# EAGLE library part DIP-BLACK-FEMALE-HEADER(2X4P-2.54) (library Seeed-Connector)
320030087
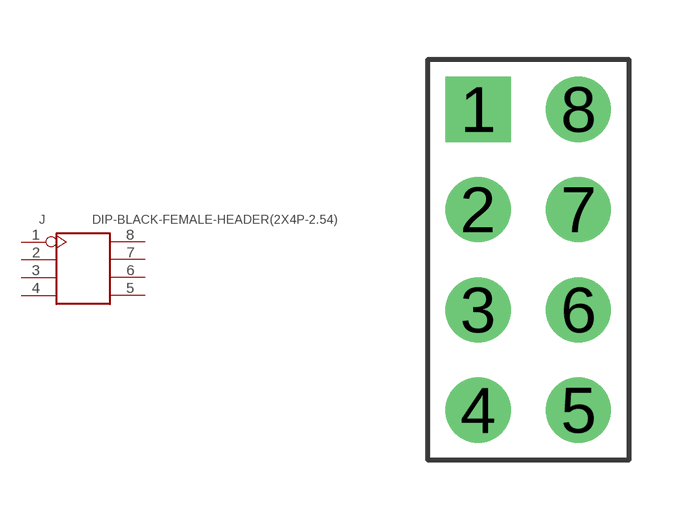
[diagram p27: symbol with the pads of H2X4-2.54; footprint H2X4-2.54]

Designator prefix J

## DIP-BLACK-FEMALE-HEADER(2X4P-2.54) (VALUE: 2X4P-2.54)  [H2X4-2.54]
1  1
2  2
3  3
4  4
5  5
6  6
7  7
8  8

## Footprint H2X4-2.54 (pad centres in mm)
drill 0.889 pad 1.651 square: 1 -1.27,3.81
drill 0.889 pad 1.651: 2 -1.27,1.27; 3 -1.27,-1.27; 4 -1.27,-3.81; 5 1.27,-3.81; 6 1.27,-1.27; 7 1.27,1.27; 8 1.27,3.81